# EAGLE library part PSTA-12 (library con-phoenix-350)
PSTA 1,5/XX-3,5 3.5 MM Terminal Block
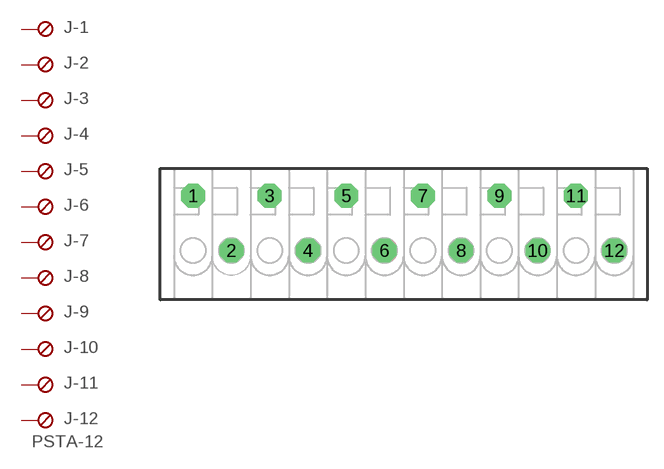
[diagram p6: symbol with the pads of PSTA-12; footprint PSTA-12]

Designator prefix J; gates -1=SKB -2=SKB -3=SKB -4=SKB -5=SKB -6=SKB -7=SKB -8=SKB -9=SKB -10=SKB -11=SKB -12=SKBU+V

## PSTA-12  [PSTA-12]
1  -1:S  pas
2  -2:S  pas
3  -3:S  pas
4  -4:S  pas
5  -5:S  pas
6  -6:S  pas
7  -7:S  pas
8  -8:S  pas
9  -9:S  pas
10  -10:S  pas
11  -11:S  pas
12  -12:S  pas

## Footprint PSTA-12 (pad centres in mm)
PTSA 1,5/12-3,5-Z 3.5mm
drill 1.016 pad 2.184 octagon: 1 -19.25,5; 2 -15.75,0; 3 -12.25,5; 4 -8.75,0; 5 -5.25,5; 6 -1.75,0; 7 1.75,5; 8 5.25,0; 9 8.75,5; 10 12.25,0; 11 15.75,5; 12 19.25,0